# Altium integrated library Linear Technology Power Management Power Control.IntLib: 661 symbols (part 12 of 43)
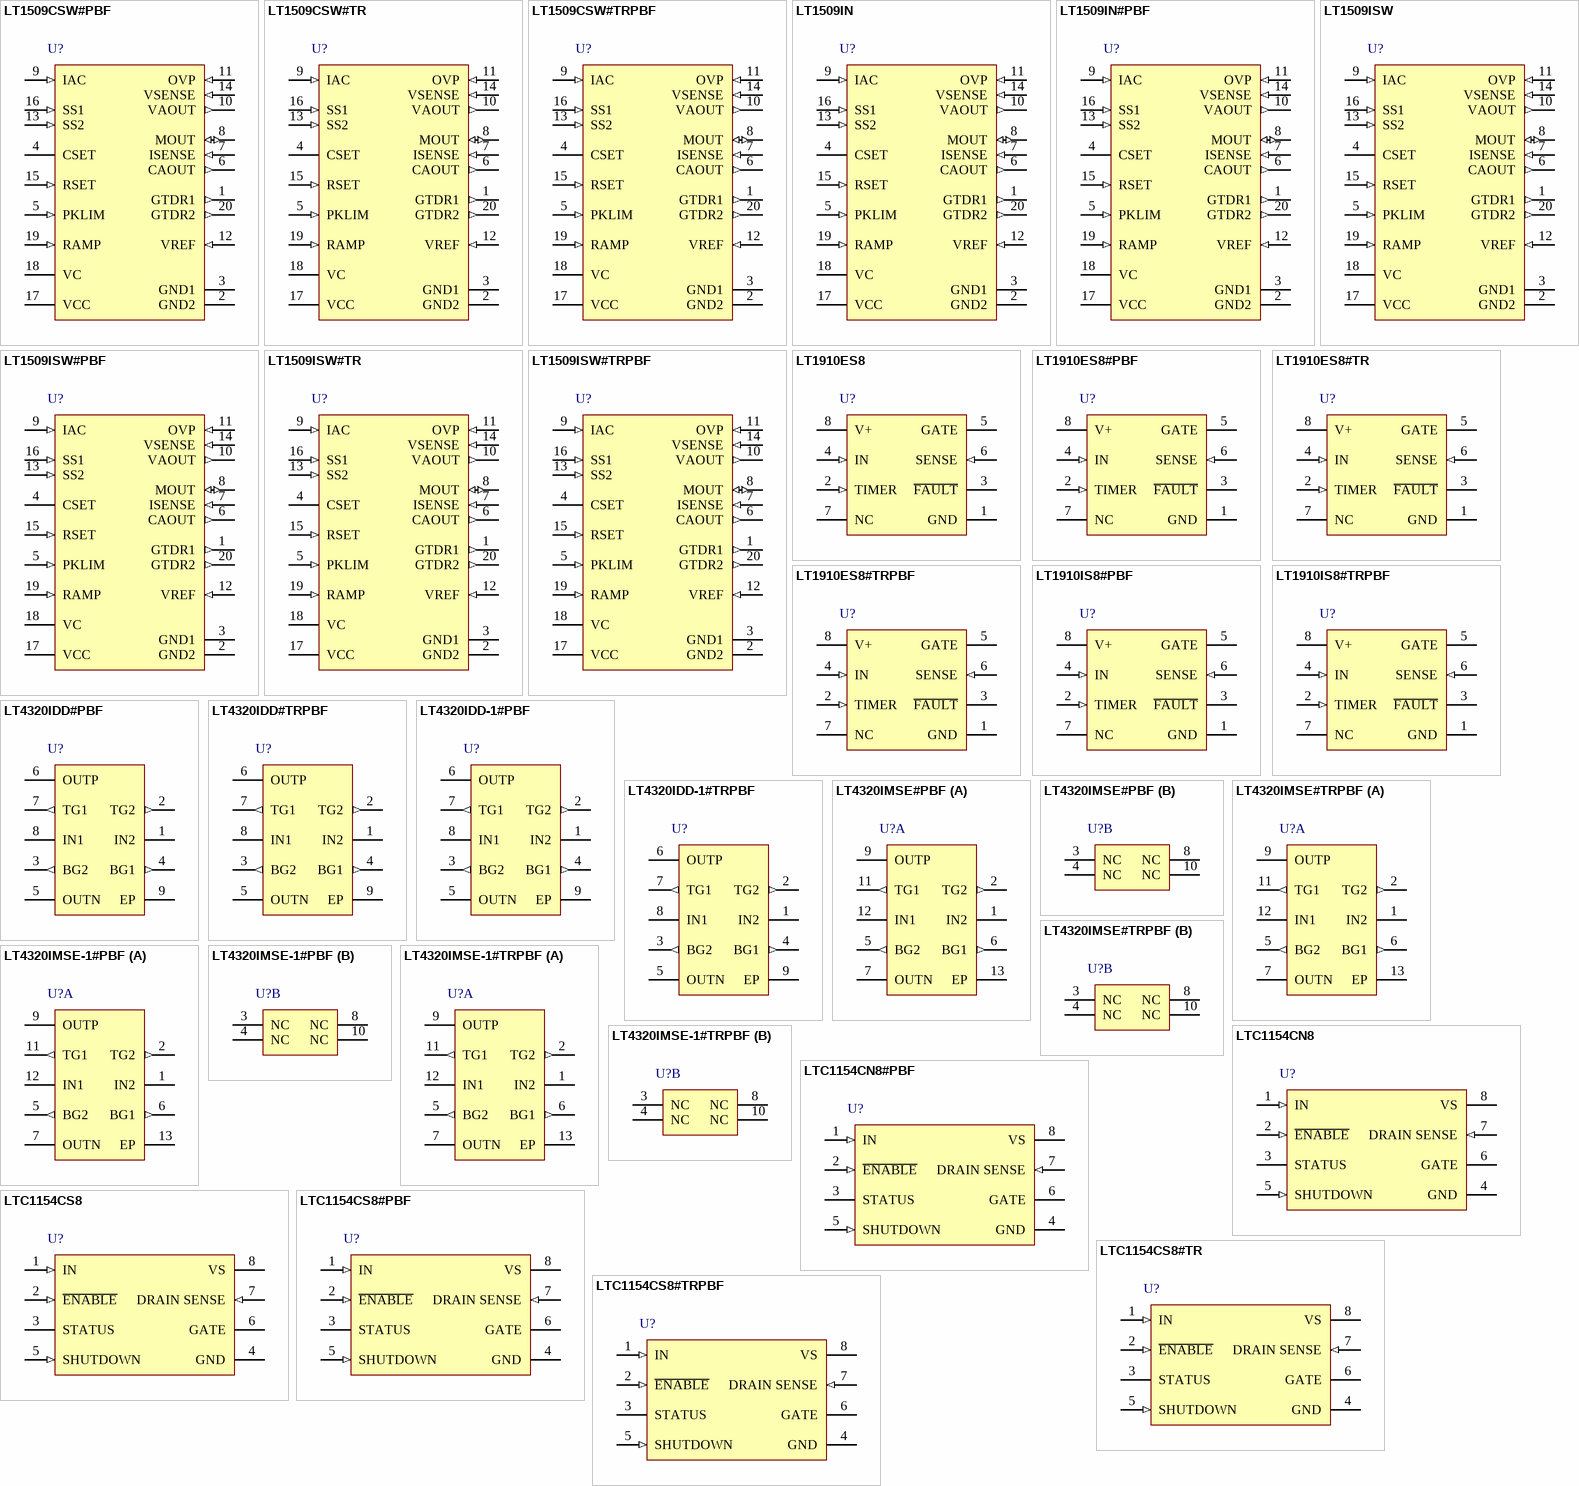
[diagram p30: symbols LT1509CSW#PBF to LTC1154CS8#TRPBF]

## LT1910IS8#TRPBF
designator U?
Protected High Side MOSFET Driver, 8 to 48 V Vin, 8-pin SOIC (S8-8), -40 to 125 degC, Pb-Free, Tape and Reel; Manufacturer: Linear Technology; PartNumber: LT1910IS8#TRPBF; DatasheetVersion: Rev. A; PackageVersion: Rev. G, 03/2012; PackageReference: S8-8; PackageDescription: 8-Pin Plastic Small Outline (Narrow .150 Inch), Body 4.9 x 3.9 mm, Pitch 1.27 mm; Supplier 1: Digi-Key; Supplier Part Number 1: LT1910IS8#TRPBF-ND; Supplier 2: Newark; Supplier Part Number 2: 25R2546; Packing: Tape and Reel; RoHS: TRUE; Mounting Technology: Surface Mount; ComponentLink1Description: Manufacturer URL; ComponentLink1URL: http://www.linear.com/; ComponentLink2Description: Datasheet; ComponentLink2URL: http://cds.linear.com/docs/en/datasheet/1910fa.pdf; ComponentLink3Description: Package Specification; ComponentLink3URL: http://cds.linear.com/docs/en/packaging/05081610_G_SO8.pdf
footprint LT-S8-8_N (SOIC, 8-Leads, Body 5x4mm, Pitch 1.27mm, IPC Medium Density)
footprint LT-S8-8_L (SOIC, 8-Leads, Body 5x4mm, Pitch 1.27mm, IPC High Density)
footprint LT-S8-8_M (SOIC, 8-Leads, Body 5x4mm, Pitch 1.27mm, IPC Low Density)
pins: 1 GND (power) "Common Ground.", 2 TIMER (in) "A timing capacitor, CT , from the TIMER pin to ground sets the restart time following overcurrent detection. Upon detection of an overcurrent condition, CT is rapidly discharged to less than 1V and then recharged by a 14uA (See Datasheet)", 3 ~{FAULT} (oc) "The F\A\U\L\T\ pin monitors the TIMER pin voltage and indicates the overcurrent condition. Whenever the TIMER pin is pulled below 3.3V at the onset of a current limit condition, the F\A\U\L\T\ pin pulls active LOW. The (See Datasheet)", 4 IN (in) "The IN pin threshold is TTL/CMOS compatible and has approximately 200mV of hysteresis. When the IN pin is pulled active HIGH above 2V, an internal charge pump is activated to pull up the GATE pin. The IN pin can be pulled as (See Datasheet)", 5 GATE (hiz) "The GATE pin drives the power MOSFET gate. When the IN pin is greater than 2V, the GATE pin is pumped approximately 12V above the supply. It has relatively high impedance (the equivalence of a few hundred kohm) when pumped (See Datasheet)", 6 SENSE (in) "The SENSE pin connects to the input of a supply-referenced comparator with a 65mV nominal offset. When the SENSE pin is taken more than 65mV below supply, the MOSFET gate is driven LOW and the timing capacitor is discharged. (See Datasheet)", 7 NC, 8 V+ (power) "In addition to providing the operating current for the LT1910, the V+ pin also serves as the Kelvin connection for the current-sense comparator. The V+ pin must be connected to the positive side of the drain-sense resistor (See Datasheet)"

## LT4320IDD#PBF
designator U?
Ideal Diode Controller - DC to 600 Hz, 9 to 72 V Vin, 8-pin SON (DD-8), -40 to 85 degC, Pb-Free; Manufacturer: Linear Technology; PartNumber: LT4320IDD#PBF; Ideal Diode: Quad, External, N-Channel; PackageVersion: Jun-10; PackageReference: DD-8; PackageDescription: 8-Pin Plastic DFN, Body 3 x 3 mm, Pitch 0.5 mm; Supplier 1: Digi-Key; Supplier Part Number 1: LT4320IDD#PBF-ND; Supplier 2: Newark; Supplier Part Number 2: 94W8460; RoHS: TRUE; Mounting Technology: Surface Mount; Code_JEDEC: MO-229; ComponentLink1Description: Manufacturer URL; ComponentLink1URL: http://www.linear.com/; ComponentLink2Description: Datasheet; ComponentLink2URL: http://cds.linear.com/docs/en/datasheet/4320f.pdf; ComponentLink3Description: Package Specification; ComponentLink3URL: http://cds.linear.com/docs/en/packaging/DFN_8_05-08-1698.pdf
footprint LT-DD-8_V (SON, 8-Leads, Body 3x3mm, Pitch 0.5mm, Thermal Pad 1.65x2.38 mm)
pins: 1 IN2 (power) "Bridge Rectifier Input. IN2 connects to the external NMOS transistors MTG2 source, MBG1 drain and the power input.", 2 TG2 (out) "Topside Gate Driver Output. TG2 pin drives MTG2 gate.", 3 BG2 (out) "Bottom-Side Gate Driver Output. BG2 pin drives MBG2 gate.", 4 BG1 (out) "Bottom-Side Gate Driver Output. BG1 pin drives MBG1 gate.", 5 OUTN (power) "OUTN is the rectified negative output voltage, and connects to the sources of MBG1 and MBG2.", 6 OUTP (power) "OUTP is the rectified positive output voltage that powers the LT4320 and connects to the drains of MTG1 and MTG2.", 7 TG1 (out) "Topside Gate Driver Output. TG1 pin drives MTG1 gate.", 8 IN1 (power) "Bridge Rectifier Input. IN1 connects to the external NMOS transistors MTG1 source, MBG2 drain, and the power input.", 9 EP (power) "Exposed Pad. Must be connected to OUTN."

## LT4320IDD#TRPBF
designator U?
Ideal Diode Controller - DC to 600 Hz, 9 to 72 V Vin, 8-pin SON (DD-8), -40 to 85 degC, Pb-Free, Tape and Reel; Manufacturer: Linear Technology; PartNumber: LT4320IDD#TRPBF; Ideal Diode: Quad, External, N-Channel; PackageVersion: Jun-10; PackageReference: DD-8; PackageDescription: 8-Pin Plastic DFN, Body 3 x 3 mm, Pitch 0.5 mm; Supplier 1: Digi-Key; Supplier Part Number 1: LT4320IDD#TRPBF-ND; Supplier 2: Newark; Supplier Part Number 2: 94W8461; Packing: Tape and Reel; RoHS: TRUE; Mounting Technology: Surface Mount; Code_JEDEC: MO-229; ComponentLink1Description: Manufacturer URL; ComponentLink1URL: http://www.linear.com/; ComponentLink2Description: Datasheet; ComponentLink2URL: http://cds.linear.com/docs/en/datasheet/4320f.pdf; ComponentLink3Description: Package Specification; ComponentLink3URL: http://cds.linear.com/docs/en/packaging/DFN_8_05-08-1698.pdf
footprint LT-DD-8_V (SON, 8-Leads, Body 3x3mm, Pitch 0.5mm, Thermal Pad 1.65x2.38 mm)
pins: 1 IN2 (power) "Bridge Rectifier Input. IN2 connects to the external NMOS transistors MTG2 source, MBG1 drain and the power input.", 2 TG2 (out) "Topside Gate Driver Output. TG2 pin drives MTG2 gate.", 3 BG2 (out) "Bottom-Side Gate Driver Output. BG2 pin drives MBG2 gate.", 4 BG1 (out) "Bottom-Side Gate Driver Output. BG1 pin drives MBG1 gate.", 5 OUTN (power) "OUTN is the rectified negative output voltage, and connects to the sources of MBG1 and MBG2.", 6 OUTP (power) "OUTP is the rectified positive output voltage that powers the LT4320 and connects to the drains of MTG1 and MTG2.", 7 TG1 (out) "Topside Gate Driver Output. TG1 pin drives MTG1 gate.", 8 IN1 (power) "Bridge Rectifier Input. IN1 connects to the external NMOS transistors MTG1 source, MBG2 drain, and the power input.", 9 EP (power) "Exposed Pad. Must be connected to OUTN."

## LT4320IDD-1#PBF
designator U?
Ideal Diode Controller - DC to 600 Hz, 9 to 72 V Vin, 8-pin SON (DD-8), -40 to 85 degC, Pb-Free; Manufacturer: Linear Technology; PartNumber: LT4320IDD-1#PBF; Ideal Diode: Quad, External, N-Channel; PackageVersion: Jun-10; PackageReference: DD-8; PackageDescription: 8-Pin Plastic DFN, Body 3 x 3 mm, Pitch 0.5 mm; Supplier 1: Digi-Key; Supplier Part Number 1: LT4320IDD-1#PBF-ND; Supplier 2: Newark; Supplier Part Number 2: 94W8458; RoHS: TRUE; Mounting Technology: Surface Mount; Code_JEDEC: MO-229; ComponentLink1Description: Manufacturer URL; ComponentLink1URL: http://www.linear.com/; ComponentLink2Description: Datasheet; ComponentLink2URL: http://cds.linear.com/docs/en/datasheet/4320f.pdf; ComponentLink3Description: Package Specification; ComponentLink3URL: http://cds.linear.com/docs/en/packaging/DFN_8_05-08-1698.pdf
footprint LT-DD-8_V (SON, 8-Leads, Body 3x3mm, Pitch 0.5mm, Thermal Pad 1.65x2.38 mm)
pins: 1 IN2 (power) "Bridge Rectifier Input. IN2 connects to the external NMOS transistors MTG2 source, MBG1 drain and the power input.", 2 TG2 (out) "Topside Gate Driver Output. TG2 pin drives MTG2 gate.", 3 BG2 (out) "Bottom-Side Gate Driver Output. BG2 pin drives MBG2 gate.", 4 BG1 (out) "Bottom-Side Gate Driver Output. BG1 pin drives MBG1 gate.", 5 OUTN (power) "OUTN is the rectified negative output voltage, and connects to the sources of MBG1 and MBG2.", 6 OUTP (power) "OUTP is the rectified positive output voltage that powers the LT4320 and connects to the drains of MTG1 and MTG2.", 7 TG1 (out) "Topside Gate Driver Output. TG1 pin drives MTG1 gate.", 8 IN1 (power) "Bridge Rectifier Input. IN1 connects to the external NMOS transistors MTG1 source, MBG2 drain, and the power input.", 9 EP (power) "Exposed Pad. Must be connected to OUTN."

## LT4320IDD-1#TRPBF
designator U?
Ideal Diode Controller - DC to 600 Hz, 9 to 72 V Vin, 8-pin SON (DD-8), -40 to 85 degC, Pb-Free, Tape and Reel; Manufacturer: Linear Technology; PartNumber: LT4320IDD-1#TRPBF; Ideal Diode: Quad, External, N-Channel; PackageVersion: Jun-10; PackageReference: DD-8; PackageDescription: 8-Pin Plastic DFN, Body 3 x 3 mm, Pitch 0.5 mm; Supplier 1: Digi-Key; Supplier Part Number 1: LT4320IDD-1#TRPBF-ND; Supplier 2: Newark; Supplier Part Number 2: 94W8459; Packing: Tape and Reel; RoHS: TRUE; Mounting Technology: Surface Mount; Code_JEDEC: MO-229; ComponentLink1Description: Manufacturer URL; ComponentLink1URL: http://www.linear.com/; ComponentLink2Description: Datasheet; ComponentLink2URL: http://cds.linear.com/docs/en/datasheet/4320f.pdf; ComponentLink3Description: Package Specification; ComponentLink3URL: http://cds.linear.com/docs/en/packaging/DFN_8_05-08-1698.pdf
footprint LT-DD-8_V (SON, 8-Leads, Body 3x3mm, Pitch 0.5mm, Thermal Pad 1.65x2.38 mm)
pins: 1 IN2 (power) "Bridge Rectifier Input. IN2 connects to the external NMOS transistors MTG2 source, MBG1 drain and the power input.", 2 TG2 (out) "Topside Gate Driver Output. TG2 pin drives MTG2 gate.", 3 BG2 (out) "Bottom-Side Gate Driver Output. BG2 pin drives MBG2 gate.", 4 BG1 (out) "Bottom-Side Gate Driver Output. BG1 pin drives MBG1 gate.", 5 OUTN (power) "OUTN is the rectified negative output voltage, and connects to the sources of MBG1 and MBG2.", 6 OUTP (power) "OUTP is the rectified positive output voltage that powers the LT4320 and connects to the drains of MTG1 and MTG2.", 7 TG1 (out) "Topside Gate Driver Output. TG1 pin drives MTG1 gate.", 8 IN1 (power) "Bridge Rectifier Input. IN1 connects to the external NMOS transistors MTG1 source, MBG2 drain, and the power input.", 9 EP (power) "Exposed Pad. Must be connected to OUTN."

## LT4320IMSE#PBF
designator U?
Ideal Diode Controller - DC to 600 Hz, 9 to 72 V Vin, 12-pin SOP (MSE-12-EDP), -40 to 85 degC, Pb-Free; Manufacturer: Linear Technology; PartNumber: LT4320IMSE#PBF; Ideal Diode: Quad, External, N-Channel; PackageVersion: Rev. G, 05/2013; PackageReference: MSE-12-EDP; PackageDescription: 12-Pin Plastic MSOP, Exposed Die Pad, Body 4.039 x 3 mm, Pitch 0.65 mm; Supplier 1: Digi-Key; Supplier Part Number 1: LT4320IMSE#PBF-ND; Supplier 2: Newark; Supplier Part Number 2: 94W8464; RoHS: TRUE; Mounting Technology: Surface Mount; ComponentLink1Description: Manufacturer URL; ComponentLink1URL: http://www.linear.com/; ComponentLink2Description: Datasheet; ComponentLink2URL: http://cds.linear.com/docs/en/datasheet/4320f.pdf; ComponentLink3Description: Package Specification; ComponentLink3URL: http://cds.linear.com/docs/en/packaging/05081666_G_MSE12.pdf
footprint LT-MSE-12-EDP_N (SOP, 12-Leads, Body 4.1x3.1mm, Pitch 0.65mm, Thermal Pad 2.95x1.76mm, IPC Medium Density)
footprint LT-MSE-12-EDP_L (SOP, 12-Leads, Body 4.1x3.1mm, Pitch 0.65mm, Thermal Pad 2.95x1.76mm, IPC High Density)
footprint LT-MSE-12-EDP_M (SOP, 12-Leads, Body 4.1x3.1mm, Pitch 0.65mm, Thermal Pad 2.95x1.76mm, IPC Low Density)
part A pins: 1 IN2 (power) "Bridge Rectifier Input. IN2 connects to the external NMOS transistors MTG2 source, MBG1 drain and the power input.", 2 TG2 (out) "Topside Gate Driver Output. TG2 pin drives MTG2 gate.", 5 BG2 (out) "Bottom-Side Gate Driver Output. BG2 pin drives MBG2 gate.", 6 BG1 (out) "Bottom-Side Gate Driver Output. BG1 pin drives MBG1 gate.", 7 OUTN (power) "OUTN is the rectified negative output voltage, and connects to the sources of MBG1 and MBG2.", 9 OUTP (power) "OUTP is the rectified positive output voltage that powers the LT4320 and connects to the drains of MTG1 and MTG2.", 11 TG1 (out) "Topside Gate Driver Output. TG1 pin drives MTG1 gate.", 12 IN1 (power) "Bridge Rectifier Input. IN1 connects to the external NMOS transistors MTG1 source, MBG2 drain, and the power input.", 13 EP (power) "Exposed Pad. Must be connected to OUTN."
part B pins: 3 NC "No Connections. Not internally connected.", 4 NC "No Connections. Not internally connected.", 8 NC "No Connections. Not internally connected.", 10 NC "No Connections. Not internally connected."

## LT4320IMSE#TRPBF
designator U?
Ideal Diode Controller - DC to 600 Hz, 9 to 72 V Vin, 12-pin SOP (MSE-12-EDP), -40 to 85 degC, Pb-Free, Tape and Reel; Manufacturer: Linear Technology; PartNumber: LT4320IMSE#TRPBF; Ideal Diode: Quad, External, N-Channel; PackageVersion: Rev. G, 05/2013; PackageReference: MSE-12-EDP; PackageDescription: 12-Pin Plastic MSOP, Exposed Die Pad, Body 4.039 x 3 mm, Pitch 0.65 mm; Supplier 1: Digi-Key; Supplier Part Number 1: LT4320IMSE#TRPBF-ND; Supplier 2: Newark; Supplier Part Number 2: 94W8465; Packing: Tape and Reel; RoHS: TRUE; Mounting Technology: Surface Mount; ComponentLink1Description: Manufacturer URL; ComponentLink1URL: http://www.linear.com/; ComponentLink2Description: Datasheet; ComponentLink2URL: http://cds.linear.com/docs/en/datasheet/4320f.pdf; ComponentLink3Description: Package Specification; ComponentLink3URL: http://cds.linear.com/docs/en/packaging/05081666_G_MSE12.pdf
footprint LT-MSE-12-EDP_N (SOP, 12-Leads, Body 4.1x3.1mm, Pitch 0.65mm, Thermal Pad 2.95x1.76mm, IPC Medium Density)
footprint LT-MSE-12-EDP_L (SOP, 12-Leads, Body 4.1x3.1mm, Pitch 0.65mm, Thermal Pad 2.95x1.76mm, IPC High Density)
footprint LT-MSE-12-EDP_M (SOP, 12-Leads, Body 4.1x3.1mm, Pitch 0.65mm, Thermal Pad 2.95x1.76mm, IPC Low Density)
part A pins: 1 IN2 (power) "Bridge Rectifier Input. IN2 connects to the external NMOS transistors MTG2 source, MBG1 drain and the power input.", 2 TG2 (out) "Topside Gate Driver Output. TG2 pin drives MTG2 gate.", 5 BG2 (out) "Bottom-Side Gate Driver Output. BG2 pin drives MBG2 gate.", 6 BG1 (out) "Bottom-Side Gate Driver Output. BG1 pin drives MBG1 gate.", 7 OUTN (power) "OUTN is the rectified negative output voltage, and connects to the sources of MBG1 and MBG2.", 9 OUTP (power) "OUTP is the rectified positive output voltage that powers the LT4320 and connects to the drains of MTG1 and MTG2.", 11 TG1 (out) "Topside Gate Driver Output. TG1 pin drives MTG1 gate.", 12 IN1 (power) "Bridge Rectifier Input. IN1 connects to the external NMOS transistors MTG1 source, MBG2 drain, and the power input.", 13 EP (power) "Exposed Pad. Must be connected to OUTN."
part B pins: 3 NC "No Connections. Not internally connected.", 4 NC "No Connections. Not internally connected.", 8 NC "No Connections. Not internally connected.", 10 NC "No Connections. Not internally connected."

## LT4320IMSE-1#PBF
designator U?
Ideal Diode Controller - DC to 600 Hz, 9 to 72 V Vin, 12-pin SOP (MSE-12-EDP), -40 to 85 degC, Pb-Free; Manufacturer: Linear Technology; PartNumber: LT4320IMSE-1#PBF; Ideal Diode: Quad, External, N-Channel; PackageVersion: Rev. G, 05/2013; PackageReference: MSE-12-EDP; PackageDescription: 12-Pin Plastic MSOP, Exposed Die Pad, Body 4.039 x 3 mm, Pitch 0.65 mm; Supplier 1: Digi-Key; Supplier Part Number 1: LT4320IMSE-1#PBF-ND; Supplier 2: Newark; Supplier Part Number 2: 94W8462; RoHS: TRUE; Mounting Technology: Surface Mount; ComponentLink1Description: Manufacturer URL; ComponentLink1URL: http://www.linear.com/; ComponentLink2Description: Datasheet; ComponentLink2URL: http://cds.linear.com/docs/en/datasheet/4320f.pdf; ComponentLink3Description: Package Specification; ComponentLink3URL: http://cds.linear.com/docs/en/packaging/05081666_G_MSE12.pdf
footprint LT-MSE-12-EDP_N (SOP, 12-Leads, Body 4.1x3.1mm, Pitch 0.65mm, Thermal Pad 2.95x1.76mm, IPC Medium Density)
footprint LT-MSE-12-EDP_L (SOP, 12-Leads, Body 4.1x3.1mm, Pitch 0.65mm, Thermal Pad 2.95x1.76mm, IPC High Density)
footprint LT-MSE-12-EDP_M (SOP, 12-Leads, Body 4.1x3.1mm, Pitch 0.65mm, Thermal Pad 2.95x1.76mm, IPC Low Density)
part A pins: 1 IN2 (power) "Bridge Rectifier Input. IN2 connects to the external NMOS transistors MTG2 source, MBG1 drain and the power input.", 2 TG2 (out) "Topside Gate Driver Output. TG2 pin drives MTG2 gate.", 5 BG2 (out) "Bottom-Side Gate Driver Output. BG2 pin drives MBG2 gate.", 6 BG1 (out) "Bottom-Side Gate Driver Output. BG1 pin drives MBG1 gate.", 7 OUTN (power) "OUTN is the rectified negative output voltage, and connects to the sources of MBG1 and MBG2.", 9 OUTP (power) "OUTP is the rectified positive output voltage that powers the LT4320 and connects to the drains of MTG1 and MTG2.", 11 TG1 (out) "Topside Gate Driver Output. TG1 pin drives MTG1 gate.", 12 IN1 (power) "Bridge Rectifier Input. IN1 connects to the external NMOS transistors MTG1 source, MBG2 drain, and the power input.", 13 EP (power) "Exposed Pad. Must be connected to OUTN."
part B pins: 3 NC "No Connections. Not internally connected.", 4 NC "No Connections. Not internally connected.", 8 NC "No Connections. Not internally connected.", 10 NC "No Connections. Not internally connected."

## LT4320IMSE-1#TRPBF
designator U?
Ideal Diode Controller - DC to 600 Hz, 9 to 72 V Vin, 12-pin SOP (MSE-12-EDP), -40 to 85 degC, Pb-Free, Tape and Reel; Manufacturer: Linear Technology; PartNumber: LT4320IMSE-1#TRPBF; Ideal Diode: Quad, External, N-Channel; PackageVersion: Rev. G, 05/2013; PackageReference: MSE-12-EDP; PackageDescription: 12-Pin Plastic MSOP, Exposed Die Pad, Body 4.039 x 3 mm, Pitch 0.65 mm; Supplier 1: Digi-Key; Supplier Part Number 1: LT4320IMSE-1#TRPBF-ND; Supplier 2: Newark; Supplier Part Number 2: 94W8463; Packing: Tape and Reel; RoHS: TRUE; Mounting Technology: Surface Mount; ComponentLink1Description: Manufacturer URL; ComponentLink1URL: http://www.linear.com/; ComponentLink2Description: Datasheet; ComponentLink2URL: http://cds.linear.com/docs/en/datasheet/4320f.pdf; ComponentLink3Description: Package Specification; ComponentLink3URL: http://cds.linear.com/docs/en/packaging/05081666_G_MSE12.pdf
footprint LT-MSE-12-EDP_N (SOP, 12-Leads, Body 4.1x3.1mm, Pitch 0.65mm, Thermal Pad 2.95x1.76mm, IPC Medium Density)
footprint LT-MSE-12-EDP_L (SOP, 12-Leads, Body 4.1x3.1mm, Pitch 0.65mm, Thermal Pad 2.95x1.76mm, IPC High Density)
footprint LT-MSE-12-EDP_M (SOP, 12-Leads, Body 4.1x3.1mm, Pitch 0.65mm, Thermal Pad 2.95x1.76mm, IPC Low Density)
part A pins: 1 IN2 (power) "Bridge Rectifier Input. IN2 connects to the external NMOS transistors MTG2 source, MBG1 drain and the power input.", 2 TG2 (out) "Topside Gate Driver Output. TG2 pin drives MTG2 gate.", 5 BG2 (out) "Bottom-Side Gate Driver Output. BG2 pin drives MBG2 gate.", 6 BG1 (out) "Bottom-Side Gate Driver Output. BG1 pin drives MBG1 gate.", 7 OUTN (power) "OUTN is the rectified negative output voltage, and connects to the sources of MBG1 and MBG2.", 9 OUTP (power) "OUTP is the rectified positive output voltage that powers the LT4320 and connects to the drains of MTG1 and MTG2.", 11 TG1 (out) "Topside Gate Driver Output. TG1 pin drives MTG1 gate.", 12 IN1 (power) "Bridge Rectifier Input. IN1 connects to the external NMOS transistors MTG1 source, MBG2 drain, and the power input.", 13 EP (power) "Exposed Pad. Must be connected to OUTN."
part B pins: 3 NC "No Connections. Not internally connected.", 4 NC "No Connections. Not internally connected.", 8 NC "No Connections. Not internally connected.", 10 NC "No Connections. Not internally connected."

## LTC1154CN8
designator U?
High-Side Micropower MOSFET Driver, 22 V Vin MAX, 8-pin DIP (N8-8), 0 to 70 degC; Manufacturer: Linear Technology; PartNumber: LTC1154CN8; DatasheetVersion: Rev. B; PackageVersion: Rev. I, 07/2011; PackageReference: N8-8; PackageDescription: 8-Pin PDIP, Body 10.16 x 6.48 mm, Pitch 2.54 mm; Supplier 1: Digi-Key; Supplier Part Number 1: LTC1154CN8-ND; RoHS: FALSE; Mounting Technology: Through Hole; ComponentLink1Description: Manufacturer URL; ComponentLink1URL: http://www.linear.com/; ComponentLink2Description: Datasheet; ComponentLink2URL: http://cds.linear.com/docs/en/datasheet/1154fb.pdf; ComponentLink3Description: Package Specification; ComponentLink3URL: http://www.linear.com/docs/en/packaging/05081510_I_N8.pdf
footprint LT-N8-8 (DIP, 8-Leads, Body 10.15x6.85mm, Pitch 2.54mm)
pins: 1 IN (in) "The LTC1154 input pin is active high and activates all of the protection and charge pump circuitry when switched ON. The shutdown pin is designed to immediately disable the switch if a secondary fault condition (over (See Datasheet)", 2 ~{ENABLE} (in) "The E\N\A\B\L\E\ input can be used to enable a number of LTC1154 high side switches in banks or to provide a secondary means of control. It can also act as an inverting input. The E\N\A\B\L\E\ input is a high impedance CMOS (See Datasheet)", 3 STATUS (oc) "The status pin is an open-drain output which is driven low whenever a fault condition is detected. A 51k pull-up resistor should be connected between this output and a logic supply. The status pins of multiple LTC1154s can (See Datasheet)", 4 GND (power) "The supply pin of the LTC1154 serves two vital purposes. The first is obvious: it powers the input, gate drive, regulation and protection circuitry. The second purpose is less obvious: it provides a Kelvin connection to the (See Datasheet)", 5 SHUTDOWN (in) "The LTC1154 input pin is active high and activates all of the protection and charge pump circuitry when switched ON. The shutdown pin is designed to immediately disable the switch if a secondary fault condition (over (See Datasheet)", 6 GATE (hiz) "The gate drive pin is either driven to ground when the switch is turned OFF or driven above the supply rail when the switch is turned ON. This pin is a relatively high impedance when driven above the rail (the equivalent of (See Datasheet)", 7 DRAIN SENSE (in) "The drain sense pin is compared against the supply pin voltage. If the voltage at this pin is more than 100mV below the supply pin, the input latch will be reset and the MOSFET gate will be quickly discharged. Cycle the (See Datasheet)", 8 VS (power) "The supply pin of the LTC1154 serves two vital purposes. The first is obvious: it powers the input, gate drive, regulation and protection circuitry. The second purpose is less obvious: it provides a Kelvin connection to the (See Datasheet)"

## LTC1154CN8#PBF
designator U?
High-Side Micropower MOSFET Driver, 22 V Vin MAX, 8-pin DIP (N8-8), 0 to 70 degC, Pb-Free; Manufacturer: Linear Technology; PartNumber: LTC1154CN8#PBF; DatasheetVersion: Rev. B; PackageVersion: Rev. I, 07/2011; PackageReference: N8-8; PackageDescription: 8-Pin PDIP, Body 10.16 x 6.48 mm, Pitch 2.54 mm; Supplier 1: Digi-Key; Supplier Part Number 1: LTC1154CN8#PBF-ND; RoHS: TRUE; Mounting Technology: Through Hole; ComponentLink1Description: Manufacturer URL; ComponentLink1URL: http://www.linear.com/; ComponentLink2Description: Datasheet; ComponentLink2URL: http://cds.linear.com/docs/en/datasheet/1154fb.pdf; ComponentLink3Description: Package Specification; ComponentLink3URL: http://www.linear.com/docs/en/packaging/05081510_I_N8.pdf
footprint LT-N8-8 (DIP, 8-Leads, Body 10.15x6.85mm, Pitch 2.54mm)
pins: 1 IN (in) "The LTC1154 input pin is active high and activates all of the protection and charge pump circuitry when switched ON. The shutdown pin is designed to immediately disable the switch if a secondary fault condition (over (See Datasheet)", 2 ~{ENABLE} (in) "The E\N\A\B\L\E\ input can be used to enable a number of LTC1154 high side switches in banks or to provide a secondary means of control. It can also act as an inverting input. The E\N\A\B\L\E\ input is a high impedance CMOS (See Datasheet)", 3 STATUS (oc) "The status pin is an open-drain output which is driven low whenever a fault condition is detected. A 51k pull-up resistor should be connected between this output and a logic supply. The status pins of multiple LTC1154s can (See Datasheet)", 4 GND (power) "The supply pin of the LTC1154 serves two vital purposes. The first is obvious: it powers the input, gate drive, regulation and protection circuitry. The second purpose is less obvious: it provides a Kelvin connection to the (See Datasheet)", 5 SHUTDOWN (in) "The LTC1154 input pin is active high and activates all of the protection and charge pump circuitry when switched ON. The shutdown pin is designed to immediately disable the switch if a secondary fault condition (over (See Datasheet)", 6 GATE (hiz) "The gate drive pin is either driven to ground when the switch is turned OFF or driven above the supply rail when the switch is turned ON. This pin is a relatively high impedance when driven above the rail (the equivalent of (See Datasheet)", 7 DRAIN SENSE (in) "The drain sense pin is compared against the supply pin voltage. If the voltage at this pin is more than 100mV below the supply pin, the input latch will be reset and the MOSFET gate will be quickly discharged. Cycle the (See Datasheet)", 8 VS (power) "The supply pin of the LTC1154 serves two vital purposes. The first is obvious: it powers the input, gate drive, regulation and protection circuitry. The second purpose is less obvious: it provides a Kelvin connection to the (See Datasheet)"

## LTC1154CS8
designator U?
High-Side Micropower MOSFET Driver, 22 V Vin MAX, 8-pin SOIC (S8-8), 0 to 70 degC; Manufacturer: Linear Technology; PartNumber: LTC1154CS8; DatasheetVersion: Rev. B; PackageVersion: Rev. G, 03/2012; PackageReference: S8-8; PackageDescription: 8-Pin Plastic Small Outline (Narrow .150 Inch), Body 4.9 x 3.9 mm, Pitch 1.27 mm; Supplier 1: Digi-Key; Supplier Part Number 1: LTC1154CS8-ND; Supplier 2: Newark; Supplier Part Number 2: 55M9433; RoHS: FALSE; Mounting Technology: Surface Mount; ComponentLink1Description: Manufacturer URL; ComponentLink1URL: http://www.linear.com/; ComponentLink2Description: Datasheet; ComponentLink2URL: http://cds.linear.com/docs/en/datasheet/1154fb.pdf; ComponentLink3Description: Package Specification; ComponentLink3URL: http://cds.linear.com/docs/en/packaging/05081610_G_SO8.pdf
footprint LT-S8-8_N (SOIC, 8-Leads, Body 5x4mm, Pitch 1.27mm, IPC Medium Density)
footprint LT-S8-8_L (SOIC, 8-Leads, Body 5x4mm, Pitch 1.27mm, IPC High Density)
footprint LT-S8-8_M (SOIC, 8-Leads, Body 5x4mm, Pitch 1.27mm, IPC Low Density)
pins: 1 IN (in) "The LTC1154 input pin is active high and activates all of the protection and charge pump circuitry when switched ON. The shutdown pin is designed to immediately disable the switch if a secondary fault condition (over (See Datasheet)", 2 ~{ENABLE} (in) "The E\N\A\B\L\E\ input can be used to enable a number of LTC1154 high side switches in banks or to provide a secondary means of control. It can also act as an inverting input. The E\N\A\B\L\E\ input is a high impedance CMOS (See Datasheet)", 3 STATUS (oc) "The status pin is an open-drain output which is driven low whenever a fault condition is detected. A 51k pull-up resistor should be connected between this output and a logic supply. The status pins of multiple LTC1154s can (See Datasheet)", 4 GND (power) "The supply pin of the LTC1154 serves two vital purposes. The first is obvious: it powers the input, gate drive, regulation and protection circuitry. The second purpose is less obvious: it provides a Kelvin connection to the (See Datasheet)", 5 SHUTDOWN (in) "The LTC1154 input pin is active high and activates all of the protection and charge pump circuitry when switched ON. The shutdown pin is designed to immediately disable the switch if a secondary fault condition (over (See Datasheet)", 6 GATE (hiz) "The gate drive pin is either driven to ground when the switch is turned OFF or driven above the supply rail when the switch is turned ON. This pin is a relatively high impedance when driven above the rail (the equivalent of (See Datasheet)", 7 DRAIN SENSE (in) "The drain sense pin is compared against the supply pin voltage. If the voltage at this pin is more than 100mV below the supply pin, the input latch will be reset and the MOSFET gate will be quickly discharged. Cycle the (See Datasheet)", 8 VS (power) "The supply pin of the LTC1154 serves two vital purposes. The first is obvious: it powers the input, gate drive, regulation and protection circuitry. The second purpose is less obvious: it provides a Kelvin connection to the (See Datasheet)"

## LTC1154CS8#PBF
designator U?
High-Side Micropower MOSFET Driver, 22 V Vin MAX, 8-pin SOIC (S8-8), 0 to 70 degC, Pb-Free; Manufacturer: Linear Technology; PartNumber: LTC1154CS8#PBF; DatasheetVersion: Rev. B; PackageVersion: Rev. G, 03/2012; PackageReference: S8-8; PackageDescription: 8-Pin Plastic Small Outline (Narrow .150 Inch), Body 4.9 x 3.9 mm, Pitch 1.27 mm; Supplier 1: Digi-Key; Supplier Part Number 1: LTC1154CS8#PBF-ND; Supplier 2: Newark; Supplier Part Number 2: 55M9434; RoHS: TRUE; Mounting Technology: Surface Mount; ComponentLink1Description: Manufacturer URL; ComponentLink1URL: http://www.linear.com/; ComponentLink2Description: Datasheet; ComponentLink2URL: http://cds.linear.com/docs/en/datasheet/1154fb.pdf; ComponentLink3Description: Package Specification; ComponentLink3URL: http://cds.linear.com/docs/en/packaging/05081610_G_SO8.pdf
footprint LT-S8-8_N (SOIC, 8-Leads, Body 5x4mm, Pitch 1.27mm, IPC Medium Density)
footprint LT-S8-8_L (SOIC, 8-Leads, Body 5x4mm, Pitch 1.27mm, IPC High Density)
footprint LT-S8-8_M (SOIC, 8-Leads, Body 5x4mm, Pitch 1.27mm, IPC Low Density)
pins: 1 IN (in) "The LTC1154 input pin is active high and activates all of the protection and charge pump circuitry when switched ON. The shutdown pin is designed to immediately disable the switch if a secondary fault condition (over (See Datasheet)", 2 ~{ENABLE} (in) "The E\N\A\B\L\E\ input can be used to enable a number of LTC1154 high side switches in banks or to provide a secondary means of control. It can also act as an inverting input. The E\N\A\B\L\E\ input is a high impedance CMOS (See Datasheet)", 3 STATUS (oc) "The status pin is an open-drain output which is driven low whenever a fault condition is detected. A 51k pull-up resistor should be connected between this output and a logic supply. The status pins of multiple LTC1154s can (See Datasheet)", 4 GND (power) "The supply pin of the LTC1154 serves two vital purposes. The first is obvious: it powers the input, gate drive, regulation and protection circuitry. The second purpose is less obvious: it provides a Kelvin connection to the (See Datasheet)", 5 SHUTDOWN (in) "The LTC1154 input pin is active high and activates all of the protection and charge pump circuitry when switched ON. The shutdown pin is designed to immediately disable the switch if a secondary fault condition (over (See Datasheet)", 6 GATE (hiz) "The gate drive pin is either driven to ground when the switch is turned OFF or driven above the supply rail when the switch is turned ON. This pin is a relatively high impedance when driven above the rail (the equivalent of (See Datasheet)", 7 DRAIN SENSE (in) "The drain sense pin is compared against the supply pin voltage. If the voltage at this pin is more than 100mV below the supply pin, the input latch will be reset and the MOSFET gate will be quickly discharged. Cycle the (See Datasheet)", 8 VS (power) "The supply pin of the LTC1154 serves two vital purposes. The first is obvious: it powers the input, gate drive, regulation and protection circuitry. The second purpose is less obvious: it provides a Kelvin connection to the (See Datasheet)"

## LTC1154CS8#TR
designator U?
High-Side Micropower MOSFET Driver, 22 V Vin MAX, 8-pin SOIC (S8-8), 0 to 70 degC, Tape and Reel; Manufacturer: Linear Technology; PartNumber: LTC1154CS8#TR; DatasheetVersion: Rev. B; PackageVersion: Rev. G, 03/2012; PackageReference: S8-8; PackageDescription: 8-Pin Plastic Small Outline (Narrow .150 Inch), Body 4.9 x 3.9 mm, Pitch 1.27 mm; Supplier 1: Digi-Key; Supplier Part Number 1: LTC1154CS8#TR-ND; Packing: Tape and Reel; RoHS: FALSE; Mounting Technology: Surface Mount; ComponentLink1Description: Manufacturer URL; ComponentLink1URL: http://www.linear.com/; ComponentLink2Description: Datasheet; ComponentLink2URL: http://cds.linear.com/docs/en/datasheet/1154fb.pdf; ComponentLink3Description: Package Specification; ComponentLink3URL: http://cds.linear.com/docs/en/packaging/05081610_G_SO8.pdf
footprint LT-S8-8_N (SOIC, 8-Leads, Body 5x4mm, Pitch 1.27mm, IPC Medium Density)
footprint LT-S8-8_L (SOIC, 8-Leads, Body 5x4mm, Pitch 1.27mm, IPC High Density)
footprint LT-S8-8_M (SOIC, 8-Leads, Body 5x4mm, Pitch 1.27mm, IPC Low Density)
pins: 1 IN (in) "The LTC1154 input pin is active high and activates all of the protection and charge pump circuitry when switched ON. The shutdown pin is designed to immediately disable the switch if a secondary fault condition (over (See Datasheet)", 2 ~{ENABLE} (in) "The E\N\A\B\L\E\ input can be used to enable a number of LTC1154 high side switches in banks or to provide a secondary means of control. It can also act as an inverting input. The E\N\A\B\L\E\ input is a high impedance CMOS (See Datasheet)", 3 STATUS (oc) "The status pin is an open-drain output which is driven low whenever a fault condition is detected. A 51k pull-up resistor should be connected between this output and a logic supply. The status pins of multiple LTC1154s can (See Datasheet)", 4 GND (power) "The supply pin of the LTC1154 serves two vital purposes. The first is obvious: it powers the input, gate drive, regulation and protection circuitry. The second purpose is less obvious: it provides a Kelvin connection to the (See Datasheet)", 5 SHUTDOWN (in) "The LTC1154 input pin is active high and activates all of the protection and charge pump circuitry when switched ON. The shutdown pin is designed to immediately disable the switch if a secondary fault condition (over (See Datasheet)", 6 GATE (hiz) "The gate drive pin is either driven to ground when the switch is turned OFF or driven above the supply rail when the switch is turned ON. This pin is a relatively high impedance when driven above the rail (the equivalent of (See Datasheet)", 7 DRAIN SENSE (in) "The drain sense pin is compared against the supply pin voltage. If the voltage at this pin is more than 100mV below the supply pin, the input latch will be reset and the MOSFET gate will be quickly discharged. Cycle the (See Datasheet)", 8 VS (power) "The supply pin of the LTC1154 serves two vital purposes. The first is obvious: it powers the input, gate drive, regulation and protection circuitry. The second purpose is less obvious: it provides a Kelvin connection to the (See Datasheet)"

## LTC1154CS8#TRPBF
designator U?
High-Side Micropower MOSFET Driver, 22 V Vin MAX, 8-pin SOIC (S8-8), 0 to 70 degC, Pb-Free, Tape and Reel; Manufacturer: Linear Technology; PartNumber: LTC1154CS8#TRPBF; DatasheetVersion: Rev. B; PackageVersion: Rev. G, 03/2012; PackageReference: S8-8; PackageDescription: 8-Pin Plastic Small Outline (Narrow .150 Inch), Body 4.9 x 3.9 mm, Pitch 1.27 mm; Supplier 1: Digi-Key; Supplier Part Number 1: LTC1154CS8#TRPBF-ND; Supplier 2: Newark; Supplier Part Number 2: 55M9436; Packing: Tape and Reel; RoHS: TRUE; Mounting Technology: Surface Mount; ComponentLink1Description: Manufacturer URL; ComponentLink1URL: http://www.linear.com/; ComponentLink2Description: Datasheet; ComponentLink2URL: http://cds.linear.com/docs/en/datasheet/1154fb.pdf; ComponentLink3Description: Package Specification; ComponentLink3URL: http://cds.linear.com/docs/en/packaging/05081610_G_SO8.pdf
footprint LT-S8-8_N (SOIC, 8-Leads, Body 5x4mm, Pitch 1.27mm, IPC Medium Density)
footprint LT-S8-8_L (SOIC, 8-Leads, Body 5x4mm, Pitch 1.27mm, IPC High Density)
footprint LT-S8-8_M (SOIC, 8-Leads, Body 5x4mm, Pitch 1.27mm, IPC Low Density)
pins: 1 IN (in) "The LTC1154 input pin is active high and activates all of the protection and charge pump circuitry when switched ON. The shutdown pin is designed to immediately disable the switch if a secondary fault condition (over (See Datasheet)", 2 ~{ENABLE} (in) "The E\N\A\B\L\E\ input can be used to enable a number of LTC1154 high side switches in banks or to provide a secondary means of control. It can also act as an inverting input. The E\N\A\B\L\E\ input is a high impedance CMOS (See Datasheet)", 3 STATUS (oc) "The status pin is an open-drain output which is driven low whenever a fault condition is detected. A 51k pull-up resistor should be connected between this output and a logic supply. The status pins of multiple LTC1154s can (See Datasheet)", 4 GND (power) "The supply pin of the LTC1154 serves two vital purposes. The first is obvious: it powers the input, gate drive, regulation and protection circuitry. The second purpose is less obvious: it provides a Kelvin connection to the (See Datasheet)", 5 SHUTDOWN (in) "The LTC1154 input pin is active high and activates all of the protection and charge pump circuitry when switched ON. The shutdown pin is designed to immediately disable the switch if a secondary fault condition (over (See Datasheet)", 6 GATE (hiz) "The gate drive pin is either driven to ground when the switch is turned OFF or driven above the supply rail when the switch is turned ON. This pin is a relatively high impedance when driven above the rail (the equivalent of (See Datasheet)", 7 DRAIN SENSE (in) "The drain sense pin is compared against the supply pin voltage. If the voltage at this pin is more than 100mV below the supply pin, the input latch will be reset and the MOSFET gate will be quickly discharged. Cycle the (See Datasheet)", 8 VS (power) "The supply pin of the LTC1154 serves two vital purposes. The first is obvious: it powers the input, gate drive, regulation and protection circuitry. The second purpose is less obvious: it provides a Kelvin connection to the (See Datasheet)"

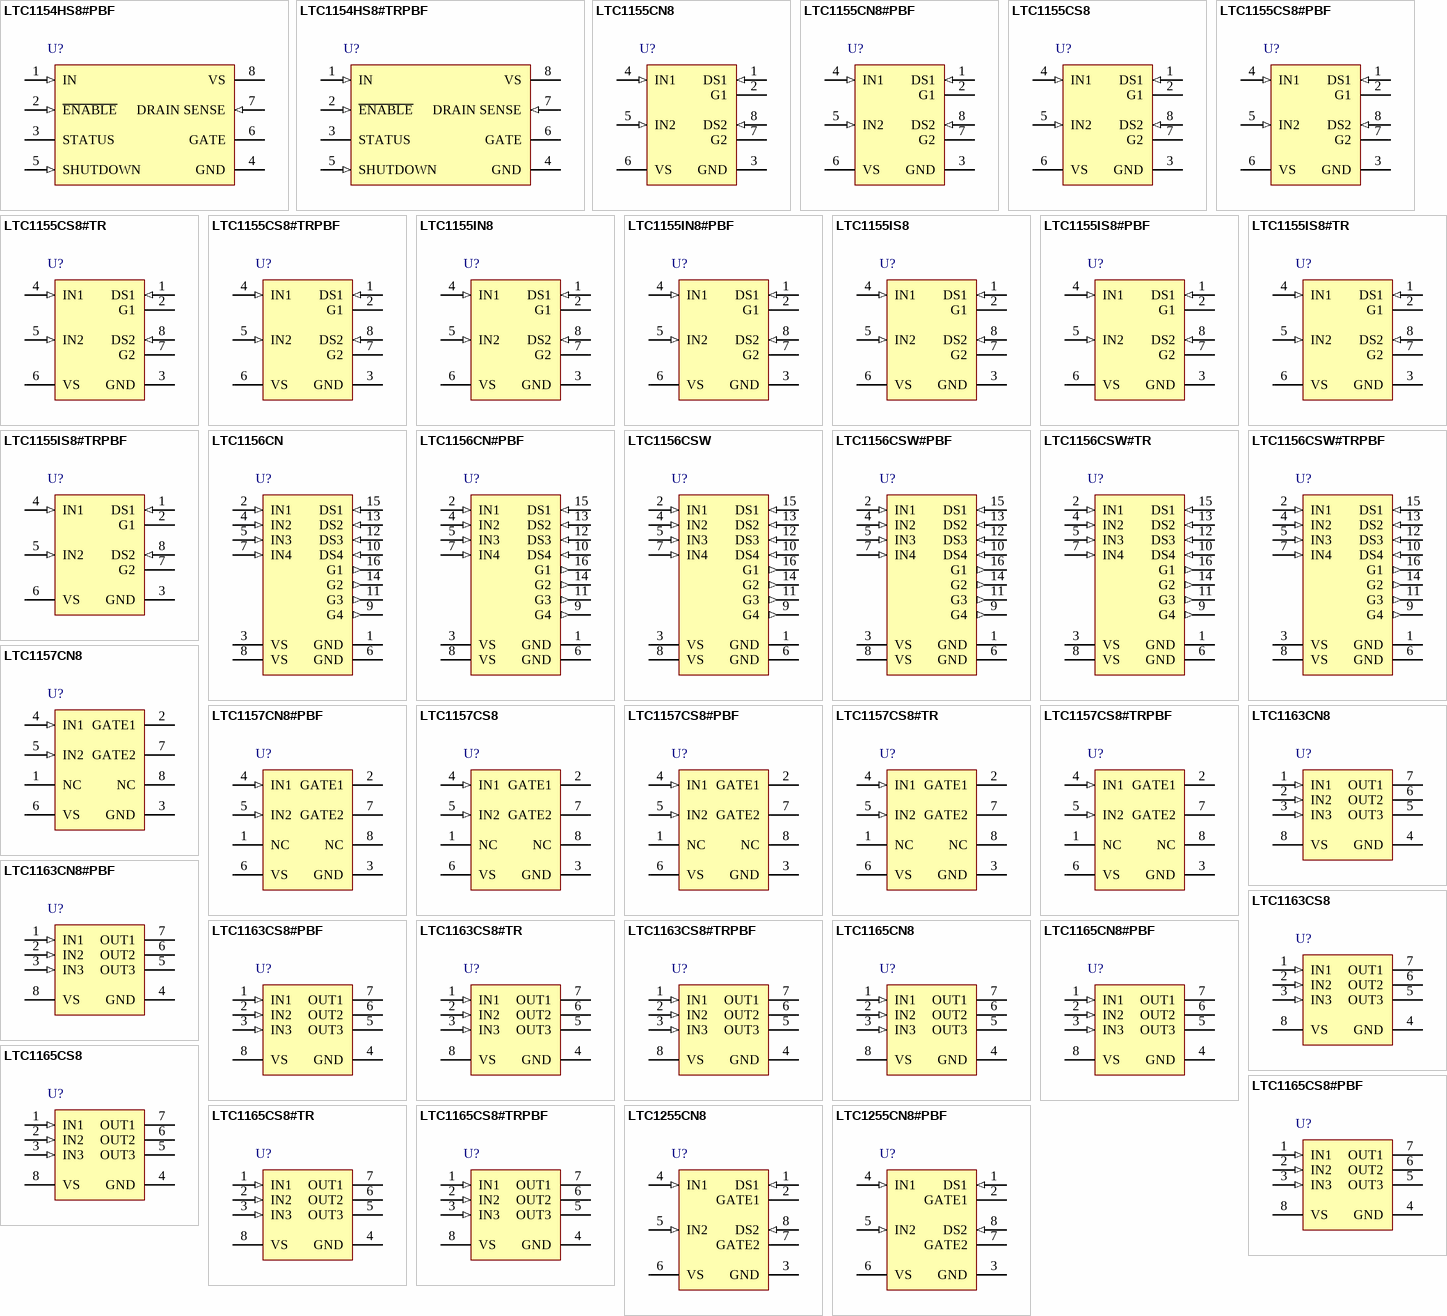
[diagram p6: symbols LTC1154HS8#PBF to LTC1255CN8#PBF]

## LTC1154HS8#PBF
designator U?
High-Side Micropower MOSFET Driver, 22 V Vin MAX, 8-pin SOIC (S8-8), -40 to 150 degC, Pb-Free; Manufacturer: Linear Technology; PartNumber: LTC1154HS8#PBF; DatasheetVersion: Rev. B; PackageVersion: Rev. G, 03/2012; PackageReference: S8-8; PackageDescription: 8-Pin Plastic Small Outline (Narrow .150 Inch), Body 4.9 x 3.9 mm, Pitch 1.27 mm; Supplier 1: Digi-Key; Supplier Part Number 1: LTC1154HS8#PBF-ND; Supplier 2: Newark; Supplier Part Number 2: 55M9437; RoHS: TRUE; Mounting Technology: Surface Mount; ComponentLink1Description: Manufacturer URL; ComponentLink1URL: http://www.linear.com/; ComponentLink2Description: Datasheet; ComponentLink2URL: http://cds.linear.com/docs/en/datasheet/1154fb.pdf; ComponentLink3Description: Package Specification; ComponentLink3URL: http://cds.linear.com/docs/en/packaging/05081610_G_SO8.pdf
footprint LT-S8-8_N (SOIC, 8-Leads, Body 5x4mm, Pitch 1.27mm, IPC Medium Density)
footprint LT-S8-8_L (SOIC, 8-Leads, Body 5x4mm, Pitch 1.27mm, IPC High Density)
footprint LT-S8-8_M (SOIC, 8-Leads, Body 5x4mm, Pitch 1.27mm, IPC Low Density)
pins: 1 IN (in) "The LTC1154 input pin is active high and activates all of the protection and charge pump circuitry when switched ON. The shutdown pin is designed to immediately disable the switch if a secondary fault condition (over (See Datasheet)", 2 ~{ENABLE} (in) "The E\N\A\B\L\E\ input can be used to enable a number of LTC1154 high side switches in banks or to provide a secondary means of control. It can also act as an inverting input. The E\N\A\B\L\E\ input is a high impedance CMOS (See Datasheet)", 3 STATUS (oc) "The status pin is an open-drain output which is driven low whenever a fault condition is detected. A 51k pull-up resistor should be connected between this output and a logic supply. The status pins of multiple LTC1154s can (See Datasheet)", 4 GND (power) "The supply pin of the LTC1154 serves two vital purposes. The first is obvious: it powers the input, gate drive, regulation and protection circuitry. The second purpose is less obvious: it provides a Kelvin connection to the (See Datasheet)", 5 SHUTDOWN (in) "The LTC1154 input pin is active high and activates all of the protection and charge pump circuitry when switched ON. The shutdown pin is designed to immediately disable the switch if a secondary fault condition (over (See Datasheet)", 6 GATE (hiz) "The gate drive pin is either driven to ground when the switch is turned OFF or driven above the supply rail when the switch is turned ON. This pin is a relatively high impedance when driven above the rail (the equivalent of (See Datasheet)", 7 DRAIN SENSE (in) "The drain sense pin is compared against the supply pin voltage. If the voltage at this pin is more than 100mV below the supply pin, the input latch will be reset and the MOSFET gate will be quickly discharged. Cycle the (See Datasheet)", 8 VS (power) "The supply pin of the LTC1154 serves two vital purposes. The first is obvious: it powers the input, gate drive, regulation and protection circuitry. The second purpose is less obvious: it provides a Kelvin connection to the (See Datasheet)"

## LTC1154HS8#TRPBF
designator U?
High-Side Micropower MOSFET Driver, 22 V Vin MAX, 8-pin SOIC (S8-8), -40 to 150 degC, Pb-Free, Tape and Reel; Manufacturer: Linear Technology; PartNumber: LTC1154HS8#TRPBF; DatasheetVersion: Rev. B; PackageVersion: Rev. G, 03/2012; PackageReference: S8-8; PackageDescription: 8-Pin Plastic Small Outline (Narrow .150 Inch), Body 4.9 x 3.9 mm, Pitch 1.27 mm; Supplier 1: Digi-Key; Supplier Part Number 1: LTC1154HS8#TRPBF-ND; Packing: Tape and Reel; RoHS: TRUE; Mounting Technology: Surface Mount; ComponentLink1Description: Manufacturer URL; ComponentLink1URL: http://www.linear.com/; ComponentLink2Description: Datasheet; ComponentLink2URL: http://cds.linear.com/docs/en/datasheet/1154fb.pdf; ComponentLink3Description: Package Specification; ComponentLink3URL: http://cds.linear.com/docs/en/packaging/05081610_G_SO8.pdf
footprint LT-S8-8_N (SOIC, 8-Leads, Body 5x4mm, Pitch 1.27mm, IPC Medium Density)
footprint LT-S8-8_L (SOIC, 8-Leads, Body 5x4mm, Pitch 1.27mm, IPC High Density)
footprint LT-S8-8_M (SOIC, 8-Leads, Body 5x4mm, Pitch 1.27mm, IPC Low Density)
pins: 1 IN (in) "The LTC1154 input pin is active high and activates all of the protection and charge pump circuitry when switched ON. The shutdown pin is designed to immediately disable the switch if a secondary fault condition (over (See Datasheet)", 2 ~{ENABLE} (in) "The E\N\A\B\L\E\ input can be used to enable a number of LTC1154 high side switches in banks or to provide a secondary means of control. It can also act as an inverting input. The E\N\A\B\L\E\ input is a high impedance CMOS (See Datasheet)", 3 STATUS (oc) "The status pin is an open-drain output which is driven low whenever a fault condition is detected. A 51k pull-up resistor should be connected between this output and a logic supply. The status pins of multiple LTC1154s can (See Datasheet)", 4 GND (power) "The supply pin of the LTC1154 serves two vital purposes. The first is obvious: it powers the input, gate drive, regulation and protection circuitry. The second purpose is less obvious: it provides a Kelvin connection to the (See Datasheet)", 5 SHUTDOWN (in) "The LTC1154 input pin is active high and activates all of the protection and charge pump circuitry when switched ON. The shutdown pin is designed to immediately disable the switch if a secondary fault condition (over (See Datasheet)", 6 GATE (hiz) "The gate drive pin is either driven to ground when the switch is turned OFF or driven above the supply rail when the switch is turned ON. This pin is a relatively high impedance when driven above the rail (the equivalent of (See Datasheet)", 7 DRAIN SENSE (in) "The drain sense pin is compared against the supply pin voltage. If the voltage at this pin is more than 100mV below the supply pin, the input latch will be reset and the MOSFET gate will be quickly discharged. Cycle the (See Datasheet)", 8 VS (power) "The supply pin of the LTC1154 serves two vital purposes. The first is obvious: it powers the input, gate drive, regulation and protection circuitry. The second purpose is less obvious: it provides a Kelvin connection to the (See Datasheet)"

## LTC1155CN8
designator U?
Dual High Side Micropower MOSFET Driver, 4.5 to 18 V Vin, 8-pin DIP (N8-8), 0 to 70 degC; Manufacturer: Linear Technology; PartNumber: LTC1155CN8; DatasheetVersion: Rev. B; PackageVersion: Rev. I, 07/2011; PackageReference: N8-8; PackageDescription: 8-Pin PDIP, Body 10.16 x 6.48 mm, Pitch 2.54 mm; Supplier 1: Digi-Key; Supplier Part Number 1: LTC1155CN8-ND; RoHS: FALSE; Mounting Technology: Through Hole; ComponentLink1Description: Manufacturer URL; ComponentLink1URL: http://www.linear.com/; ComponentLink2Description: Datasheet; ComponentLink2URL: http://cds.linear.com/docs/en/datasheet/1155fb.pdf; ComponentLink3Description: Package Specification; ComponentLink3URL: http://www.linear.com/docs/en/packaging/05081510_I_N8.pdf
footprint LT-N8-8 (DIP, 8-Leads, Body 10.15x6.85mm, Pitch 2.54mm)
pins: 1 DS1 (in) "As noted previously, the drain sense pin is compared against the supply pin voltage. If the voltage at this pin is more than 100mV below the supply pin, the input latch will be reset and the MOSFET gate will be quickly (See Datasheet)", 2 G1 (hiz) "The gate drive pin is either driven to ground when the switch is turned OFF or driven above the supply rail when the switch is turned ON. This pin is a relatively high impedance when driven above the rail (the equivalent of (See Datasheet)", 3 GND (power) "The supply pin of the LTC1155 serves two vital purposes. The first is obvious: it powers the input, gate drive, regulation and protection circuitry. The second purpose is less obvious: it provides a Kelvin connection to the (See Datasheet)", 4 IN1 (in) "The LTC1155 logic input is a high impedance CMOS gate and should be grounded when not in use. These input pins have ESD protection diodes to ground and supply and, therefore, should not be forced beyond the power supply (See Datasheet)", 5 IN2 (in) "The LTC1155 logic input is a high impedance CMOS gate and should be grounded when not in use. These input pins have ESD protection diodes to ground and supply and, therefore, should not be forced beyond the power supply (See Datasheet)", 6 VS (power) "The supply pin of the LTC1155 serves two vital purposes. The first is obvious: it powers the input, gate drive, regulation and protection circuitry. The second purpose is less obvious: it provides a Kelvin connection to the (See Datasheet)", 7 G2 (hiz) "The gate drive pin is either driven to ground when the switch is turned OFF or driven above the supply rail when the switch is turned ON. This pin is a relatively high impedance when driven above the rail (the equivalent of (See Datasheet)", 8 DS2 (in) "As noted previously, the drain sense pin is compared against the supply pin voltage. If the voltage at this pin is more than 100mV below the supply pin, the input latch will be reset and the MOSFET gate will be quickly (See Datasheet)"

## LTC1155CN8#PBF
designator U?
Dual High Side Micropower MOSFET Driver, 4.5 to 18 V Vin, 8-pin DIP (N8-8), 0 to 70 degC, Pb-Free; Manufacturer: Linear Technology; PartNumber: LTC1155CN8#PBF; DatasheetVersion: Rev. B; PackageVersion: Rev. I, 07/2011; PackageReference: N8-8; PackageDescription: 8-Pin PDIP, Body 10.16 x 6.48 mm, Pitch 2.54 mm; Supplier 1: Digi-Key; Supplier Part Number 1: LTC1155CN8#PBF-ND; Supplier 2: Newark; Supplier Part Number 2: 55M9440; RoHS: TRUE; Mounting Technology: Through Hole; ComponentLink1Description: Manufacturer URL; ComponentLink1URL: http://www.linear.com/; ComponentLink2Description: Datasheet; ComponentLink2URL: http://cds.linear.com/docs/en/datasheet/1155fb.pdf; ComponentLink3Description: Package Specification; ComponentLink3URL: http://www.linear.com/docs/en/packaging/05081510_I_N8.pdf
footprint LT-N8-8 (DIP, 8-Leads, Body 10.15x6.85mm, Pitch 2.54mm)
pins: 1 DS1 (in) "As noted previously, the drain sense pin is compared against the supply pin voltage. If the voltage at this pin is more than 100mV below the supply pin, the input latch will be reset and the MOSFET gate will be quickly (See Datasheet)", 2 G1 (hiz) "The gate drive pin is either driven to ground when the switch is turned OFF or driven above the supply rail when the switch is turned ON. This pin is a relatively high impedance when driven above the rail (the equivalent of (See Datasheet)", 3 GND (power) "The supply pin of the LTC1155 serves two vital purposes. The first is obvious: it powers the input, gate drive, regulation and protection circuitry. The second purpose is less obvious: it provides a Kelvin connection to the (See Datasheet)", 4 IN1 (in) "The LTC1155 logic input is a high impedance CMOS gate and should be grounded when not in use. These input pins have ESD protection diodes to ground and supply and, therefore, should not be forced beyond the power supply (See Datasheet)", 5 IN2 (in) "The LTC1155 logic input is a high impedance CMOS gate and should be grounded when not in use. These input pins have ESD protection diodes to ground and supply and, therefore, should not be forced beyond the power supply (See Datasheet)", 6 VS (power) "The supply pin of the LTC1155 serves two vital purposes. The first is obvious: it powers the input, gate drive, regulation and protection circuitry. The second purpose is less obvious: it provides a Kelvin connection to the (See Datasheet)", 7 G2 (hiz) "The gate drive pin is either driven to ground when the switch is turned OFF or driven above the supply rail when the switch is turned ON. This pin is a relatively high impedance when driven above the rail (the equivalent of (See Datasheet)", 8 DS2 (in) "As noted previously, the drain sense pin is compared against the supply pin voltage. If the voltage at this pin is more than 100mV below the supply pin, the input latch will be reset and the MOSFET gate will be quickly (See Datasheet)"